# EAGLE library part CON_01X07 (library Athena-r1p0)
Library: MF_Connectors Description: Header Connector with 7 Positions and 01 Rows. Use the LABEL Attribute to label the pin on the schematic and PCB. You can remove the attributes on the PCB by using the SMASH function on the part and then deleting the text.
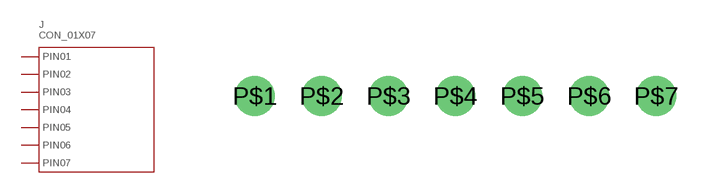
[diagram p9: symbol with the pads of PTH_2.54MM_01X07; footprint PTH_2.54MM_01X07]

Designator prefix J

## CON_01X07_PTH_2.54MM (HOUSEPART: YES; MPN: MF-CON-2.54mm-01x07; POPULATE: 1; URL: https://factory.macrofab.com/part/MF-CON-2.54mm-01x07; VALUE: MF-CON-2.54mm-01x07)  [PTH_2.54MM_01X07]
P$1  PIN1
P$2  PIN2
P$3  PIN3
P$4  PIN4
P$5  PIN5
P$6  PIN6
P$7  PIN7

## Footprint PTH_2.54MM_01X07 (pad centres in mm)
Description: Package for 2.54MM Pitch Header 7 Position. Based on 4UCON 00834.
drill 1: P$1 -7.62,0; P$2 -5.08,0; P$3 -2.54,0; P$4 0,0; P$5 2.54,0; P$6 5.08,0; P$7 7.62,0